# EAGLE library part STEREOPOT (library EurorackModularParts)
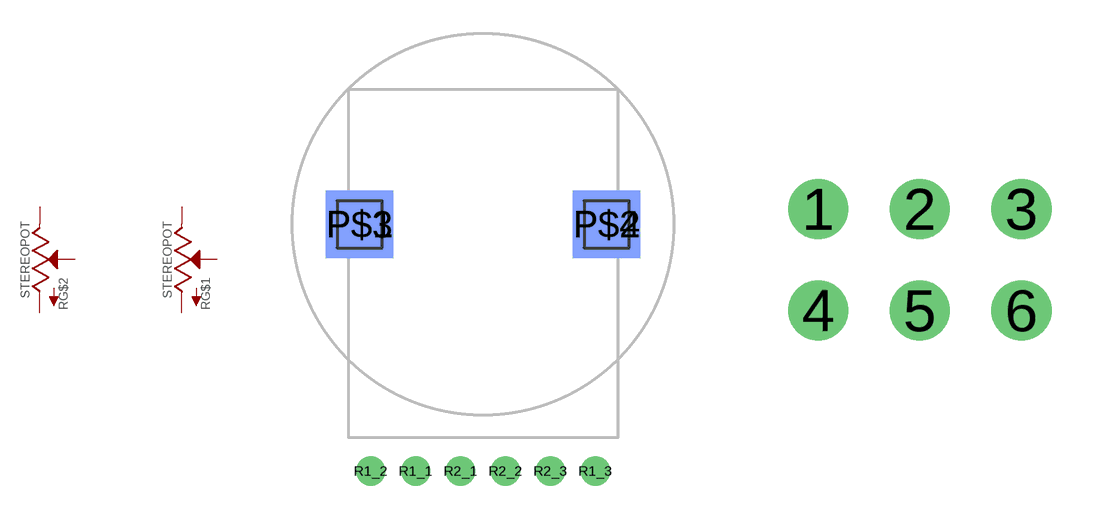
[diagram p14: symbol with the pads of RK12; footprints RK12, ALPHADUALGANG]

Designator prefix R; gates G$1=POT G$2=POT

## STEREOPOTRK12  [RK12]
R1_1  G$1:E  pas
R1_2  G$1:S  pas
R1_3  G$1:A  pas
R2_1  G$2:E  pas
R2_2  G$2:S  pas
R2_3  G$2:A  pas

## STEREOPOTALPHA  [ALPHADUALGANG]
1  G$1:E  pas
2  G$1:S  pas
3  G$1:A  pas
4  G$2:E  pas
5  G$2:S  pas
6  G$2:A  pas

## Footprint RK12 (pad centres in mm)
smd 3 x 3: P$1 -5.5,0; P$2 5.5,0
smd 3 x 3 bottom: P$3 -5.5,0; P$4 5.5,0
drill 0.8: R1_1 -3,-11; R1_2 -5,-11; R1_3 5,-11; R2_1 -1,-11; R2_2 1,-11; R2_3 3,-11

## Footprint ALPHADUALGANG (pad centres in mm)
drill 1: 1 -2.54,-7.62; 2 0,-7.62; 3 2.54,-7.62; 4 -2.54,-10.16; 5 0,-10.16; 6 2.54,-10.16